# EAGLE library part CPL-LED-DRIVER-WHT-AP3032 (library TinWhiskers)
LED Driver: White, Step-Up, AP3032 (Diodes, Inc.); Package: SOT23-6; Datasheet: http://www.diodes.com/_files/datasheets/AP3032.pdf
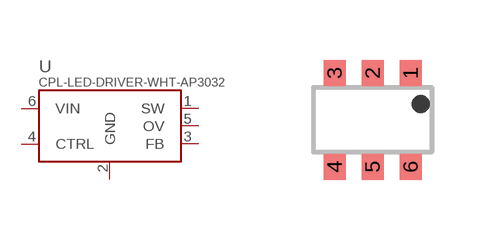
[diagram p37: symbol with the pads of SOT-23-6; footprint SOT-23-6]

Designator prefix U

## CPL-LED-DRIVER-WHT-AP3032  [SOT-23-6]
1  SW
2  GND
3  FB
4  CTRL
5  OV
6  VIN

## Footprint SOT-23-6 (pad centres in mm)
SOT-23 (6-Pin)
smd 0.55 x 0.65: 1 0.95,1.175; 2 0,1.175; 3 -0.95,1.175; 4 -0.95,-1.175; 5 0,-1.175; 6 0.95,-1.175